# Altium footprint library PEI_PCB_1.1.PcbLib: 310 footprints (part 8 of 20)
Each footprint in its own frame and in the unit in brackets; x right, y up, seen from the top. Pads: shape width x height; smd on the part's side, far side on the other; paste and mask are expansions set on the pad; w line width, h text height; cw(c..) or ccw(c..) is an arc to the next point about the centre after c.
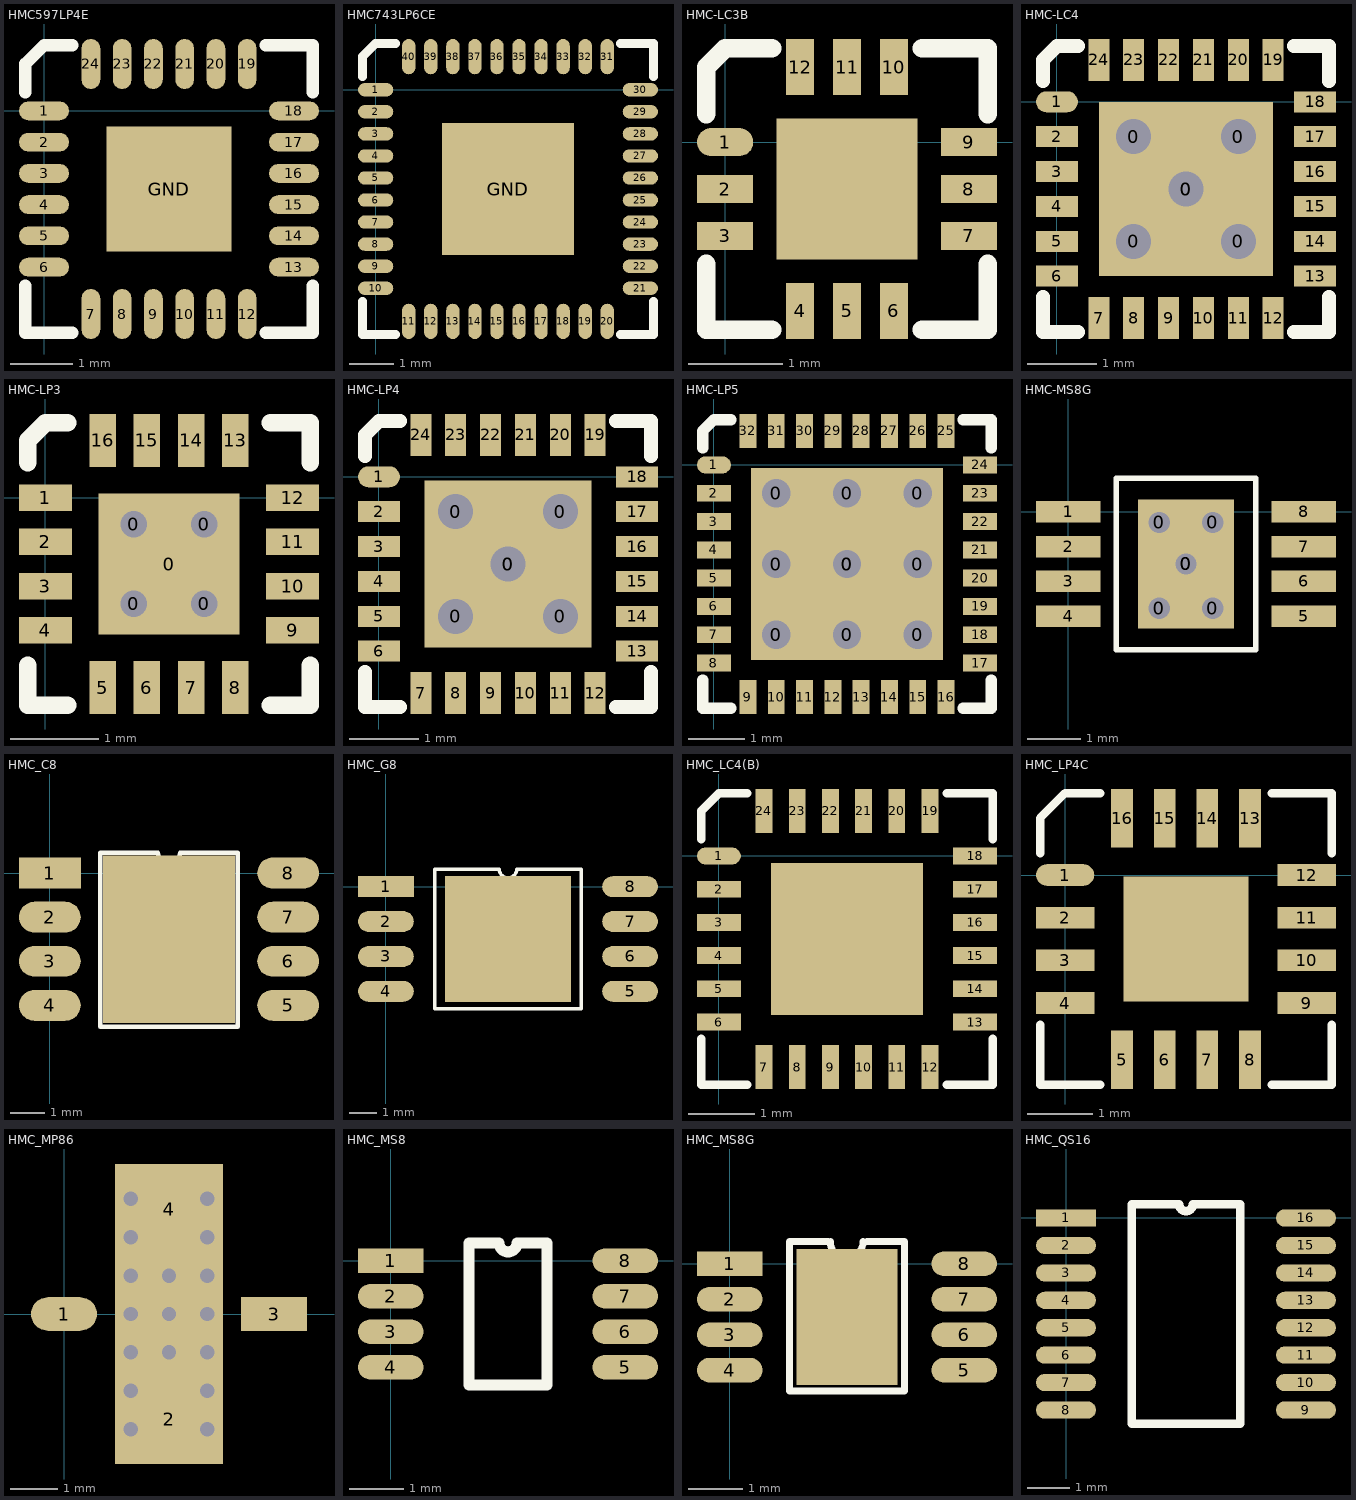
[diagram p7: the footprints below, top view; thin cyan lines are the x and y axes]

## HMC597LP4E [mm]
pads (25):
  oval 0.8x0.3 smd: 1(0,0) 2(0,-0.5) 3(0,-1) 4(0,-1.5) 5(0,-2) 6(0,-2.5) 13(4,-2.5) 14(4,-2) 15(4,-1.5) 16(4,-1) 17(4,-0.5) 18(4,0)
  oval 0.3x0.8 smd: 7(0.75,-3.25) 8(1.25,-3.25) 9(1.75,-3.25) 10(2.25,-3.25) 11(2.75,-3.25) 12(3.25,-3.25) 19(3.25,0.75) 20(2.75,0.75) 21(2.25,0.75) 22(1.75,0.75) 23(1.25,0.75) 24(0.75,0.75)
  rect 2x2 smd: GND(2,-1.25)
TopOverlay:
  lines w0.2: -0.3,-2.8 -0.3,-3.55 0.45,-3.55 ; -0.3,0.3 -0.3,0.75 0,1.05 0.45,1.05 ; 3.55,-3.55 4.3,-3.55 4.3,-2.8 ; 3.55,1.05 4.3,1.05 4.3,0.3

## HMC743LP6CE [mm]
pads (41):
  oval 0.8x0.3 smd: 1(0,0) 2(0,-0.5) 3(0,-1) 4(0,-1.5) 5(0,-2) 6(0,-2.5) 7(0,-3) 8(0,-3.5) 9(0,-4) 10(0,-4.5) 21(6,-4.5) 22(6,-4) 23(6,-3.5) 24(6,-3) 25(6,-2.5) 26(6,-2) 27(6,-1.5) 28(6,-1) 29(6,-0.5) 30(6,0)
  oval 0.3x0.8 smd: 11(0.75,-5.25) 12(1.25,-5.25) 13(1.75,-5.25) 14(2.25,-5.25) 15(2.75,-5.25) 16(3.25,-5.25) 17(3.75,-5.25) 18(4.25,-5.25) 19(4.75,-5.25) 20(5.25,-5.25) 31(5.25,0.75) 32(4.75,0.75) 33(4.25,0.75) 34(3.75,0.75) 35(3.25,0.75) 36(2.75,0.75) 37(2.25,0.75) 38(1.75,0.75) 39(1.25,0.75) 40(0.75,0.75)
  rect 3x3 smd: GND(3,-2.25)
TopOverlay:
  lines w0.2: -0.3,-4.8 -0.3,-5.55 0.45,-5.55 ; -0.3,0.3 -0.3,0.75 0,1.05 0.45,1.05 ; 5.55,-5.55 6.3,-5.55 6.3,-4.8 ; 5.55,1.05 6.3,1.05 6.3,0.3

## HMC-LC3B [mm]
pads (13):
  oval 0.6x0.3 smd: 1(0,0)
  rect 0.6x0.3 smd: 2(0,-0.5) 3(0,-1) 7(2.6,-1) 8(2.6,-0.5) 9(2.6,0)
  rect 0.3x0.6 smd: 4(0.8,-1.8) 5(1.3,-1.8) 6(1.8,-1.8) 10(1.8,0.8) 11(1.3,0.8) 12(0.8,0.8)
  rect 1.5x1.5 smd: ""(1.3,-0.5)
TopOverlay:
  lines w0.2: -0.2,-1.3 -0.2,-2 0.5,-2 ; -0.2,0.3 -0.2,0.8 0,1 0.5,1 ; 2.1,-2 2.8,-2 2.8,-1.3 ; 2.1,1 2.8,1 2.8,0.3

## HMC-LC4 [mm]
pads (30):
  round 0.8 hole 0.5: 0(1.1,-2) 0(1.1,-0.5) 0(1.85,-1.25) 0(2.6,-2) 0(2.6,-0.5)
  rect 2.5x2.5 smd: 0(1.85,-1.25)
  oval 0.6x0.3 smd: 1(0,0)
  rect 0.6x0.3 smd: 2(0,-0.5) 3(0,-1) 4(0,-1.5) 5(0,-2) 6(0,-2.5) 13(3.7,-2.5) 14(3.7,-2) 15(3.7,-1.5) 16(3.7,-1) 17(3.7,-0.5) 18(3.7,0)
  rect 0.3x0.6 smd: 7(0.6,-3.1) 8(1.1,-3.1) 9(1.6,-3.1) 10(2.1,-3.1) 11(2.6,-3.1) 12(3.1,-3.1) 19(3.1,0.6) 20(2.6,0.6) 21(2.1,0.6) 22(1.6,0.6) 23(1.1,0.6) 24(0.6,0.6)
TopOverlay:
  lines w0.2: -0.2,-2.8 -0.2,-3.3 0.3,-3.3 ; -0.2,0.3 -0.2,0.6 0,0.8 0.3,0.8 ; 3.4,-3.3 3.9,-3.3 3.9,-2.8 ; 3.4,0.8 3.9,0.8 3.9,0.3

## HMC-LP3 [mm]
pads (21):
  round 0.5 hole 0.3: 0(1,-1.2) 0(1,-0.3) 0(1.8,-1.2) 0(1.8,-0.3)
  rect 1.6x1.6 smd: 0(1.4,-0.75)
  rect 0.6x0.3 smd: 1(0,0) 2(0,-0.5) 3(0,-1) 4(0,-1.5) 9(2.8,-1.5) 10(2.8,-1) 11(2.8,-0.5) 12(2.8,0)
  rect 0.3x0.6 smd: 5(0.65,-2.15) 6(1.15,-2.15) 7(1.65,-2.15) 8(2.15,-2.15) 13(2.15,0.65) 14(1.65,0.65) 15(1.15,0.65) 16(0.65,0.65)
TopOverlay:
  lines w0.2: -0.2,-1.9 -0.2,-2.35 0.25,-2.35 ; -0.2,0.4 -0.2,0.65 0,0.85 0.25,0.85 ; 2.55,-2.35 3,-2.35 3,-1.9 ; 2.55,0.85 3,0.85 3,0.4

## HMC-LP4 [mm]
pads (30):
  round 0.8 hole 0.5: 0(1.1,-2) 0(1.1,-0.5) 0(1.85,-1.25) 0(2.6,-2) 0(2.6,-0.5)
  rect 2.4x2.4 smd: 0(1.85,-1.25)
  oval 0.6x0.3 smd: 1(0,0)
  rect 0.6x0.3 smd: 2(0,-0.5) 3(0,-1) 4(0,-1.5) 5(0,-2) 6(0,-2.5) 13(3.7,-2.5) 14(3.7,-2) 15(3.7,-1.5) 16(3.7,-1) 17(3.7,-0.5) 18(3.7,0)
  rect 0.3x0.6 smd: 7(0.6,-3.1) 8(1.1,-3.1) 9(1.6,-3.1) 10(2.1,-3.1) 11(2.6,-3.1) 12(3.1,-3.1) 19(3.1,0.6) 20(2.6,0.6) 21(2.1,0.6) 22(1.6,0.6) 23(1.1,0.6) 24(0.6,0.6)
TopOverlay:
  lines w0.2: -0.2,-2.8 -0.2,-3.3 0.3,-3.3 ; -0.2,0.3 -0.2,0.6 0,0.8 0.3,0.8 ; 3.4,-3.3 3.9,-3.3 3.9,-2.8 ; 3.4,0.8 3.9,0.8 3.9,0.3

## HMC-LP5 [mm]
pads (42):
  round 0.8 hole 0.5: 0(1.1,-3) 0(1.1,-1.75) 0(1.1,-0.5) 0(2.35,-3) 0(2.35,-1.75) 0(2.35,-0.5) 0(3.6,-3) 0(3.6,-1.75) 0(3.6,-0.5)
  rect 3.4x3.4 smd: 0(2.35,-1.75)
  oval 0.6x0.3 smd: 1(0,0)
  rect 0.6x0.3 smd: 2(0,-0.5) 3(0,-1) 4(0,-1.5) 5(0,-2) 6(0,-2.5) 7(0,-3) 8(0,-3.5) 17(4.7,-3.5) 18(4.7,-3) 19(4.7,-2.5) 20(4.7,-2) 21(4.7,-1.5) 22(4.7,-1) 23(4.7,-0.5) 24(4.7,0)
  rect 0.3x0.6 smd: 9(0.6,-4.1) 10(1.1,-4.1) 11(1.6,-4.1) 12(2.1,-4.1) 13(2.6,-4.1) 14(3.1,-4.1) 15(3.6,-4.1) 16(4.1,-4.1) 25(4.1,0.6) 26(3.6,0.6) 27(3.1,0.6) 28(2.6,0.6) 29(2.1,0.6) 30(1.6,0.6) 31(1.1,0.6) 32(0.6,0.6)
TopOverlay:
  lines w0.2: -0.2,-3.8 -0.2,-4.3 0.3,-4.3 ; -0.2,0.3 -0.2,0.6 0,0.8 0.3,0.8 ; 4.4,-4.3 4.9,-4.3 4.9,-3.8 ; 4.4,0.8 4.9,0.8 4.9,0.3

## HMC-MS8G [mm]
pads (14):
  round 0.6 hole 0.4: 0(1.7,-1.8) 0(1.7,-0.2) 0(2.2,-0.975) 0(2.7,-1.8) 0(2.7,-0.2)
  rect 1.8x2.4 smd: 0(2.2,-0.975)
  rect 1.2x0.4 smd: 1(0,0) 2(0,-0.65) 3(0,-1.3) 4(0,-1.95) 5(4.4,-1.95) 6(4.4,-1.3) 7(4.4,-0.65) 8(4.4,0)
TopOverlay:
  lines w0.1: 0.9,-2.575 3.5,-2.575 3.5,0.625 0.9,0.625 0.9,-2.575

## HMC_C8 [mil]
pads (9):
  rect 70x35 smd: 1(0,0)
  oval 70x35 smd: 2(0,-50) 3(0,-100) 4(0,-150) 5(270,-150) 6(270,-100) 7(270,-50) 8(270,0)
  rect 150x190 smd: ""(135,-75)
TopOverlay:
  lines w5: 147.5,23 cw(c135,23) 122.5,23 57,23 57,-174 213,-174 213,23 148,23

## HMC_G8 [mil]
pads (9):
  rect 80x30 smd: 1(0,0)
  oval 80x30 smd: 2(0,-50) 3(0,-100) 4(0,-150) 5(350,-150) 6(350,-100) 7(350,-50) 8(350,0)
  rect 180x180 smd: ""(175,-75)
TopOverlay:
  lines w5: 70,-175 70,25 162.5,25 ccw(c175,25) 187.5,25 280,25 280,-175 70,-175

## HMC_LC4(B) [mil]
pads (25):
  oval 26x10 smd: 1(0,0)
  rect 26x10 smd: 2(0,-19.7) 3(0,-39.4) 4(0,-59.1) 5(0,-78.8) 6(0,-98.5) 13(152,-98.5) 14(152,-78.8) 15(152,-59.1) 16(152,-39.4) 17(152,-19.7) 18(152,0)
  rect 10x26 smd: 7(26.75,-125.25) 8(46.45,-125.25) 9(66.15,-125.25) 10(85.85,-125.25) 11(105.55,-125.25) 12(125.25,-125.25) 19(125.25,26.75) 20(105.55,26.75) 21(85.85,26.75) 22(66.15,26.75) 23(46.45,26.75) 24(26.75,26.75)
  rect 90x90 smd: ""(76,-49.25)
TopOverlay:
  lines w5: -10.5,-108.5 -10.5,-135.75 16.75,-135.75 ; -10.5,10 -10.5,26.75 0,37.25 16.75,37.25 ; 135.25,-135.75 162.5,-135.75 162.5,-108.5 ; 135.25,37.25 162.5,37.25 162.5,10

## HMC_LP4C [mil]
pads (17):
  oval 35x13 smd: 1(0,0)
  rect 35x13 smd: 2(0,-25.6) 3(0,-51.2) 4(0,-76.8) 9(145,-76.8) 10(145,-51.2) 11(145,-25.6) 12(145,0)
  rect 13x35 smd: 5(34.1,-110.9) 6(59.7,-110.9) 7(85.3,-110.9) 8(110.9,-110.9) 13(110.9,34.1) 14(85.3,34.1) 15(59.7,34.1) 16(34.1,34.1)
  rect 75x75 smd: ""(72.5,-38.4)
TopOverlay:
  lines w5: -15,-89.8 -15,-125.9 21.1,-125.9 ; -15,13 -15,34.1 0,49.1 21.1,49.1 ; 123.9,-125.9 160,-125.9 160,-89.8 ; 123.9,49.1 160,49.1 160,13

## HMC_MP86 [mil]
pads (5):
  oval 55x28 smd: 1(0,0)
  rect 28x55 smd: 2(87.5,-87.5) 4(87.5,87.5)
  rect 55x28 smd: 3(175,0)
  rect 90x250 smd: ""(87.5,0)
via 87.5,0 diameter 12 hole 12
via 55.5,0 diameter 12 hole 12
via 119.5,0 diameter 12 hole 12
via 55.5,96 diameter 12 hole 12
via 55.5,64 diameter 12 hole 12
via 55.5,32 diameter 12 hole 12
via 55.5,-32 diameter 12 hole 12
via 55.5,-64 diameter 12 hole 12
via 55.5,-96 diameter 12 hole 12
via 87.5,-32 diameter 12 hole 12
via 87.5,32 diameter 12 hole 12
via 119.5,32 diameter 12 hole 12
via 119.5,-32 diameter 12 hole 12
via 119.5,-64 diameter 12 hole 12
via 119.5,-96 diameter 12 hole 12
via 119.5,64 diameter 12 hole 12
via 119.5,96 diameter 12 hole 12

## HMC_MS8 [mm]
pads (8):
  rect 1.2x0.45 smd: 1(0,0)
  oval 1.2x0.45 smd: 2(0,-0.65) 3(0,-1.3) 4(0,-1.95) 5(4.3,-1.95) 6(4.3,-1.3) 7(4.3,-0.65) 8(4.3,0)
TopOverlay:
  lines w0.2: 1.435,-2.275 2.865,-2.275 2.865,0.325 2.312,0.325 cw(c2.15,0.325) 1.987,0.325 1.435,0.325 1.435,-2.275

## HMC_MS8G [mm]
pads (9):
  rect 1.2x0.45 smd: 1(0,0)
  oval 1.2x0.45 smd: 2(0,-0.65) 3(0,-1.3) 4(0,-1.95) 5(4.3,-1.95) 6(4.3,-1.3) 7(4.3,-0.65) 8(4.3,0)
  rect 1.85x2.49 smd: ""(2.15,-0.975)
TopOverlay:
  lines w0.127: 1.803,0.406 1.092,0.406 1.092,-2.337 3.2,-2.337 3.2,0.406 2.515,0.406 ; 1.844,0.406 ccw(c2.144,0.406) 2.444,0.406

## HMC_QS16 [mm]
pads (16):
  rect 1.4x0.4 smd: 1(0,0)
  oval 1.4x0.4 smd: 2(0,-0.64) 3(0,-1.28) 4(0,-1.92) 5(0,-2.56) 6(0,-3.2) 7(0,-3.84) 8(0,-4.48) 9(5.6,-4.48) 10(5.6,-3.84) 11(5.6,-3.2) 12(5.6,-2.56) 13(5.6,-1.92) 14(5.6,-1.28) 15(5.6,-0.64) 16(5.6,0)
TopOverlay:
  lines w0.2: 1.535,-4.8 1.535,0.32 2.64,0.32 ccw(c2.8,0.32) 2.96,0.32 4.065,0.32 4.065,-4.8 1.535,-4.8